# EAGLE library part 9AXIS_IMU (library quadparts_john)
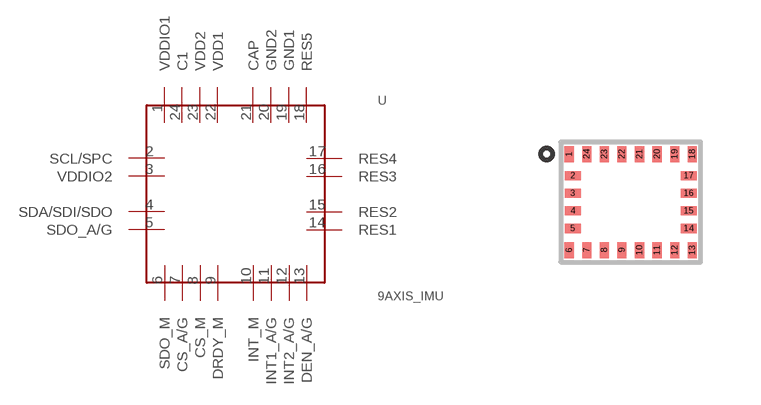
[diagram p0: symbol with the pads of 9AXIS_IMU; footprint 9AXIS_IMU]

Designator prefix U

## 9AXIS_IMU (CREATOR: Tiange Wu; DIST: Digikey; DISTPN: 497-14946-1-ND; MFR: STMicroelectronics; MPN: LSM9DS1TR)  [9AXIS_IMU]
1  VDDIO1  pwr
2  SCL/SPC
3  VDDIO2  pwr
4  SDA/SDI/SDO
5  SDO_A/G  out
6  SDO_M  out
7  CS_A/G
8  CS_M
9  DRDY_M
10  INT_M
11  INT1_A/G
12  INT2_A/G
13  DEN_A/G
14  RES1
15  RES2
16  RES3
17  RES4
18  RES5
19  GND1
20  GND2
21  CAP
22  VDD1  pwr
23  VDD2  pwr
24  C1

## Footprint 9AXIS_IMU (pad centres in mm)
smd 0.23 x 0.4: 1 -1.54,1.2; 6 -1.54,-1.2; 7 -1.1,-1.2; 8 -0.66,-1.2; 9 -0.22,-1.2; 10 0.22,-1.2; 11 0.66,-1.2; 12 1.1,-1.2; 13 1.54,-1.2; 18 1.54,1.2; 19 1.1,1.2; 20 0.66,1.2; 21 0.22,1.2; 22 -0.22,1.2; 23 -0.66,1.2; 24 -1.1,1.2
smd 0.4 x 0.23: 2 -1.45,0.66; 3 -1.45,0.22; 4 -1.45,-0.22; 5 -1.45,-0.66; 14 1.45,-0.66; 15 1.45,-0.22; 16 1.45,0.22; 17 1.45,0.66